# Altium footprint library RT4812GJ8F.PcbLib: 1 footprints
Each footprint in its own frame and in the unit in brackets; x right, y up, seen from the top. Pads: shape width x height; smd on the part's side, far side on the other; paste and mask are expansions set on the pad; w line width, h text height; cw(c..) or ccw(c..) is an arc to the next point about the centre after c.
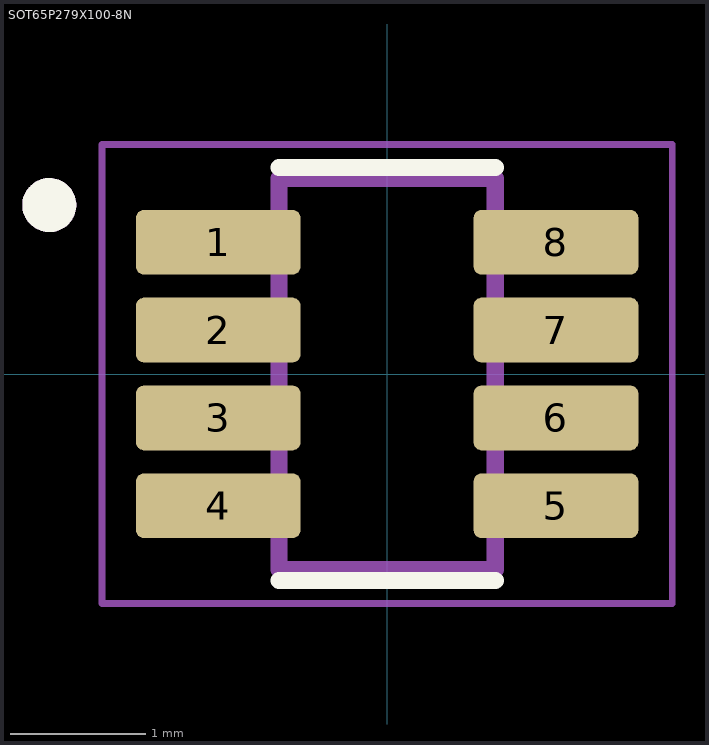
[diagram p0: the footprint, top view; thin cyan lines are the x and y axes]

## SOT65P279X100-8N [mm]
pads (8):
  rrect25% 1.22x0.48 smd: 1(-1.25,0.975) 2(-1.25,0.325) 3(-1.25,-0.325) 4(-1.25,-0.975) 5(1.25,-0.975) 6(1.25,-0.325) 7(1.25,0.325) 8(1.25,0.975)
Top Overlay:
  circle w0.2: c-2.5,1.25 r0.1
  lines w0.127: -0.8,-1.529 0.8,-1.529 ; -0.8,1.529 0.8,1.529
Mechanical 13:
  circle w0.2: c-2.5,1.25 r0.1
  lines w0.127: -0.8,-1.448 -0.8,1.448 0.8,1.448 0.8,-1.448 -0.8,-1.448
Mechanical 15:
  lines w0.05: -2.11,-1.698 -2.11,1.698 2.11,1.698 2.11,-1.698 -2.11,-1.698
3D body "RT4812GJ8F.step": height 1, standoff 0, extent -1.4,-1.45 1.4,1.45